# EAGLE library part CON-2X3 (library Connectors)
Connector Header Through Hole 6 position 0.118" (3.00mm)
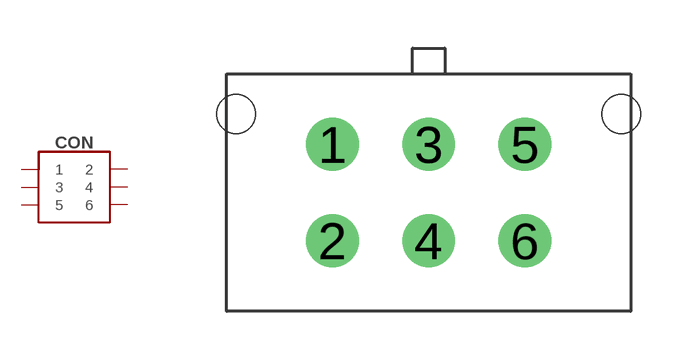
[diagram p9: symbol with the pads of MICROFIT_2X3; footprint MICROFIT_2X3]

Designator prefix CON

## CON-2X3 (DIGIKEY#: WM1791-ND; MANF: Molex; MANF#: 0430450612)  [MICROFIT_2X3]
1  1
2  2
3  3
4  4
5  5
6  6

## Footprint MICROFIT_2X3 (pad centres in mm)
Micro-Fit 3.0 Vertical Header, 3.00mm Pitch, Dual Row, 6 Circuits, with PCB Polarizing Peg, Tin, Glow-Wire Capable, Black Link <https://www.molex.com/molex/products/datasheet.jsp?part=active/0430450612_PCB_HEADERS.xml>
drill 1.1: 1 -3,1.5; 2 -3,-1.5; 3 0,1.5; 4 0,-1.5; 5 3,1.5; 6 3,-1.5
hole 1.2 at -6,2.45
hole 1.2 at 6,2.45